# EAGLE library part G5V2T* (library rele)
RELAY
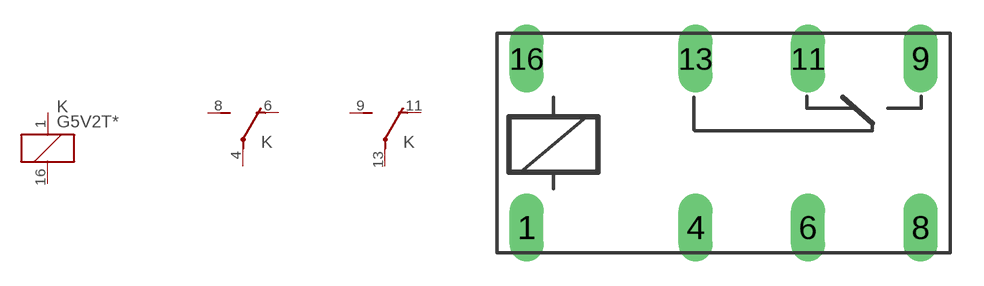
[diagram p11: symbol with the pads of G5V2; footprint G5V2]

Designator prefix K; gates G$1=K G$2=U G$3=U

## G5V2T05, G5V2T12, G5V2T24  [G5V2]
1  G$1:1  pas
4  G$2:P  pas
6  G$2:O  pas
8  G$2:S  pas
9  G$3:S  pas
11  G$3:O  pas
13  G$3:P  pas
16  G$1:2  pas

## Footprint G5V2 (pad centres in mm)
RELAY
drill 1.016 long: 1 -7.62,-3.81; 4 0,-3.81; 6 5.08,-3.81; 8 10.16,-3.81; 9 10.16,3.81; 11 5.08,3.81; 13 0,3.81; 16 -7.62,3.81